# EAGLE library part SBH11-PBPC-D03 (library con-sullins)
HEADER - Vertical, Shrouded
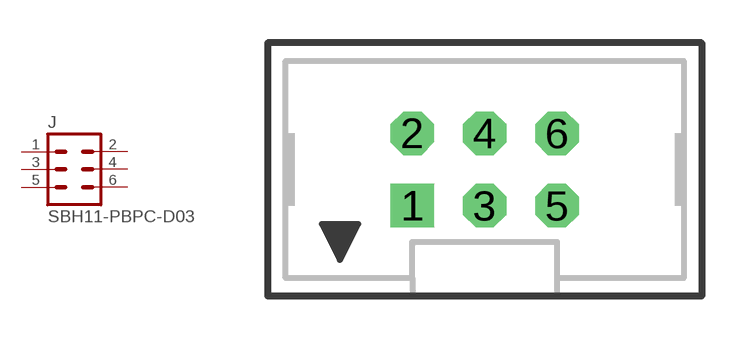
[diagram p41: symbol with the pads of SBH11-PBPC-D03; footprint SBH11-PBPC-D03]

Designator prefix J

## SBH11-PBPC-D03  [SBH11-PBPC-D03]
1  1  pas
2  2  pas
3  3  pas
4  4  pas
5  5  pas
6  6  pas

## Footprint SBH11-PBPC-D03 (pad centres in mm)
HEADER - 0.1", Shrouded, Vertical
drill 1.016 square: 1 -2.54,-1.27
drill 1.016 octagon: 2 -2.54,1.27; 3 0,-1.27; 4 0,1.27; 5 2.54,-1.27; 6 2.54,1.27